# EAGLE library part _CON_MOD_8P8C_H_TH_(1734795-1) (library SamacSys_Parts)
Modular Connector RJ45 8P8C SHD Source: Datasheet <https://www.arrow.com/en/products/1734795-1/te-connectivity>
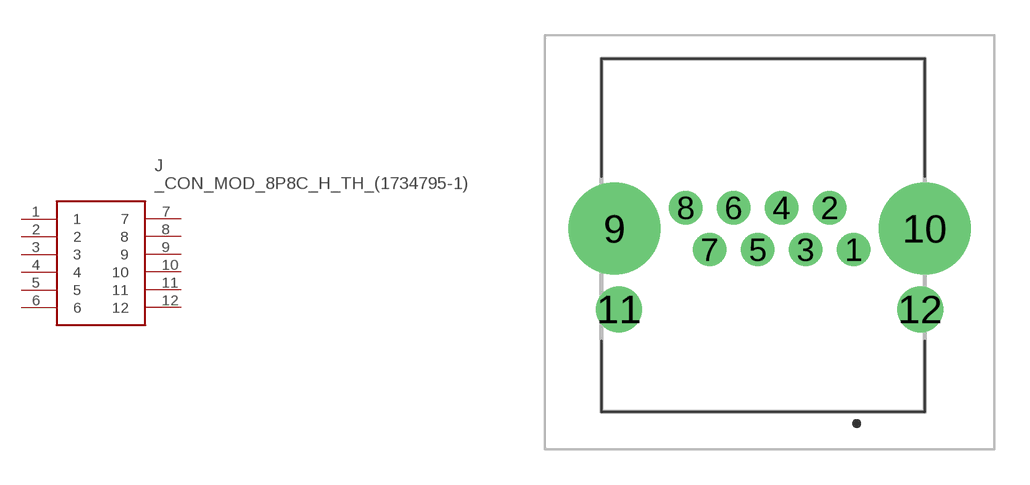
[diagram p8: symbol with the pads of 17347951; footprint 17347951]

Designator prefix J

## _CON_MOD_8P8C_H_TH_(1734795-1) (DESCRIPTION: Modular Connector RJ45 8P8C SHD; HEIGHT: 11mm; MANUFACTURER_NAME: TE Connectivity; MANUFACTURER_PART_NUMBER: 1734795-1; MOUSER_PART_NUMBER: 571-1734795-1; MOUSER_PRICE-STOCK: https://www.mouser.co.uk/ProductDetail/TE-Connectivity/1734795-1?qs=o4qE4s2E%252BcwMtABnCR%2FcJQ%3D%3D)  [17347951]
1  1
2  2
3  3
4  4
5  5
6  6
7  7
8  8
9  9
10  10
11  11
12  12

## Footprint 17347951 (pad centres in mm)
1734795-1
drill 0.9 pad 1.4: 1 3.57,-0.31; 2 2.55,1.47; 3 1.53,-0.31; 4 0.51,1.47; 5 -0.51,-0.31; 6 -1.53,1.47; 7 -2.55,-0.31; 8 -3.57,1.47
drill 2.6 pad 3.9: 9 -6.59,0.58; 10 6.59,0.58
drill 1.3 pad 1.95: 11 -6.4,-2.85; 12 6.4,-2.85